# Altium footprint library PCB - BUTTONS - ESWITCH TL2203EE.PCBLIB: 1 footprints
Each footprint in its own frame and in the unit in brackets; x right, y up, seen from the top. Pads: shape width x height; smd on the part's side, far side on the other; paste and mask are expansions set on the pad; w line width, h text height; cw(c..) or ccw(c..) is an arc to the next point about the centre after c.
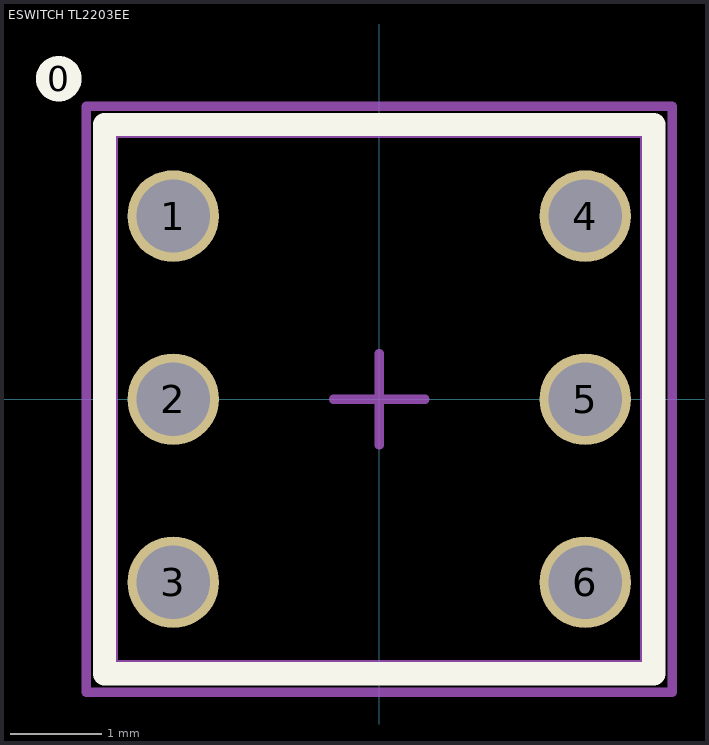
[diagram p0: the footprint, top view; thin cyan lines are the x and y axes]

## ESWITCH TL2203EE [mm]
height 10
pads (7):
  round 0.5 on Top Overlay: 0(-3.5,3.5)
  round 1 hole 0.8: 1(-2.25,2) 2(-2.25,0) 3(-2.25,-2) 4(2.25,2) 5(2.25,0) 6(2.25,-2)
Top Overlay:
  lines w0.254: -3,-3 -3,3 3,3 3,-3 -3,-3
Mechanical 13:
  lines w0.1: -2.9,-2.9 2.9,-2.9 2.9,2.9 -2.9,2.9 -2.9,-2.9
Mechanical 15:
  lines w0.1: -0.5,0 0.5,0 ; 0,-0.5 0,0.5 ; -3.2,-3.2 3.2,-3.2 3.2,3.2 -3.2,3.2 -3.2,-3.2
3D body "E-Switch - TL2203.step": height 10, standoff -3.5, extent -2.9,-2.9 2.9,2.9